# Altium schematic symbol library LM337LZ.Schlib: 1 symbol
Pins are listed as number, name and electrical type; pins without a type are passive.

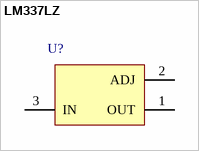
[diagram p0: symbol LM337LZ]

## LM337LZ
designator U?
pins: 1 OUT, 2 ADJ, 3 IN